# Altium schematic symbol library Fairchild_Semiconductor_1N4733A.SchLib: 1 symbol
Pins are listed as number, name and electrical type; pins without a type are passive.

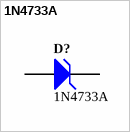
[diagram p0: symbol 1N4733A]

## 1N4733A
designator D?
Zener Diode, 5.1V, 1W, 5%, -65 to 200 degC, 2-Pin DO-41, Body 2.72 x 5.2 mm, RoHS; Manufacturer: Fairchild Semiconductor; ZZ (Max) (ohm): 7; IR (uA): 10; VZ (Min.) (V): 4.845; Test Current IZ (mA): 49; VZ (Max.) (V): 5.355; PD (W): 1; PartNumber: 1N4733A; Tolerance: 5%; ComponentLink1Description: Manufacturer URL; ComponentLink2Description: Datasheet; DatasheetVersion: Rev. H3; ComponentLink3URL: http://www.fairchildsemi.com/dwg/DO/DO41A.pdf; ComponentLink1URL: http://www.fairchildsemi.com/; Operating and Storage Temperature Range: -65 to 200 degC; ComponentLink2URL: http://www.fairchildsemi.com/ds/1N/1N4744A.pdf; PackageReference: DO-41-2; ComponentLink3Description: Package Specification; PackageVersion: Rev. 2; RoHS: TRUE; Mounting Technology: Through Hole; PackageDescription: 2-Pin Axial leaded, Body 2.72 x 5.2 mm, Lead Spread 25.4 mm
footprint FAIR-DO-41-2_V
pins: 1 A, 2 K